# EAGLE library part ?M06B-SRSS-TB (library beetle_drv)
Disconnectable Crimp style connector, 1.0mm pitch 6 contacts
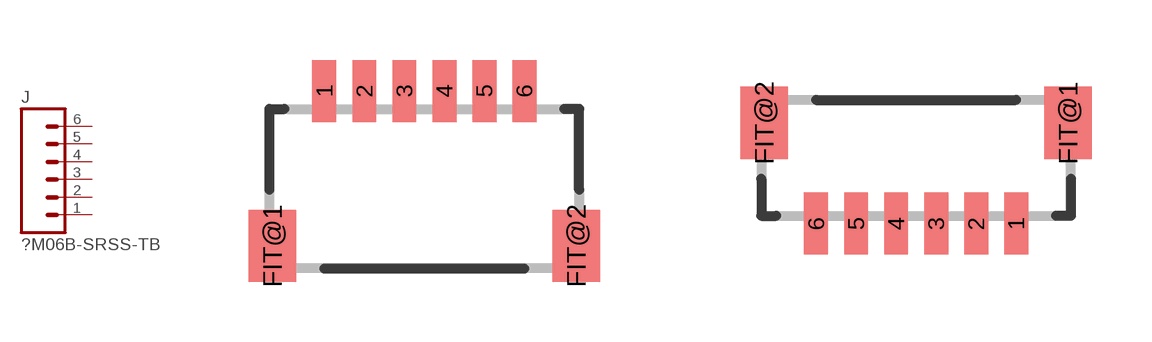
[diagram p3: symbol with the pads of SM06B-SRSS-TB; footprints SM06B-SRSS-TB, BM06B-SRSS-TB]

Designator prefix J

## SM06B-SRSS-TB  [SM06B-SRSS-TB]
1  1  pas
2  2  pas
3  3  pas
4  4  pas
5  5  pas
6  6  pas

## BM06B-SRSS-TB  [BM06B-SRSS-TB]
Pads as for SM06B-SRSS-TB

## Footprint SM06B-SRSS-TB (pad centres in mm)
Shrouded Header, side entry type https://www.digikey.com/product-detail/en/jst-sales-america-inc/SM06B-SRSS-TB-LF-SN/455-1806-1-ND/926877
smd 0.6 x 1.55: 1 -2.5,2.975; 2 -1.5,2.975; 3 -0.5,2.975; 4 0.5,2.975; 5 1.5,2.975; 6 2.5,2.975
smd 1.2 x 1.8: FIT@1 -3.8,-0.9; FIT@2 3.8,-0.9

## Footprint BM06B-SRSS-TB (pad centres in mm)
Shrouded Header, top entry type https://www.digikey.com/product-detail/en/jst-sales-america-inc/BM06B-SRSS-TB-LF-SN/455-1792-1-ND/926863
smd 0.6 x 1.55: 1 2.5,-1.625; 2 1.5,-1.625; 3 0.5,-1.625; 4 -0.5,-1.625; 5 -1.5,-1.625; 6 -2.5,-1.625
smd 1.2 x 1.8: FIT@1 3.8,0.9; FIT@2 -3.8,0.9